# Altium footprint library Package_DIP.PcbLib: 281 footprints (part 15 of 18)
Each footprint in its own frame and in the unit in brackets; x right, y up, seen from the top. Pads: shape width x height; smd on the part's side, far side on the other; paste and mask are expansions set on the pad; w line width, h text height; cw(c..) or ccw(c..) is an arc to the next point about the centre after c.
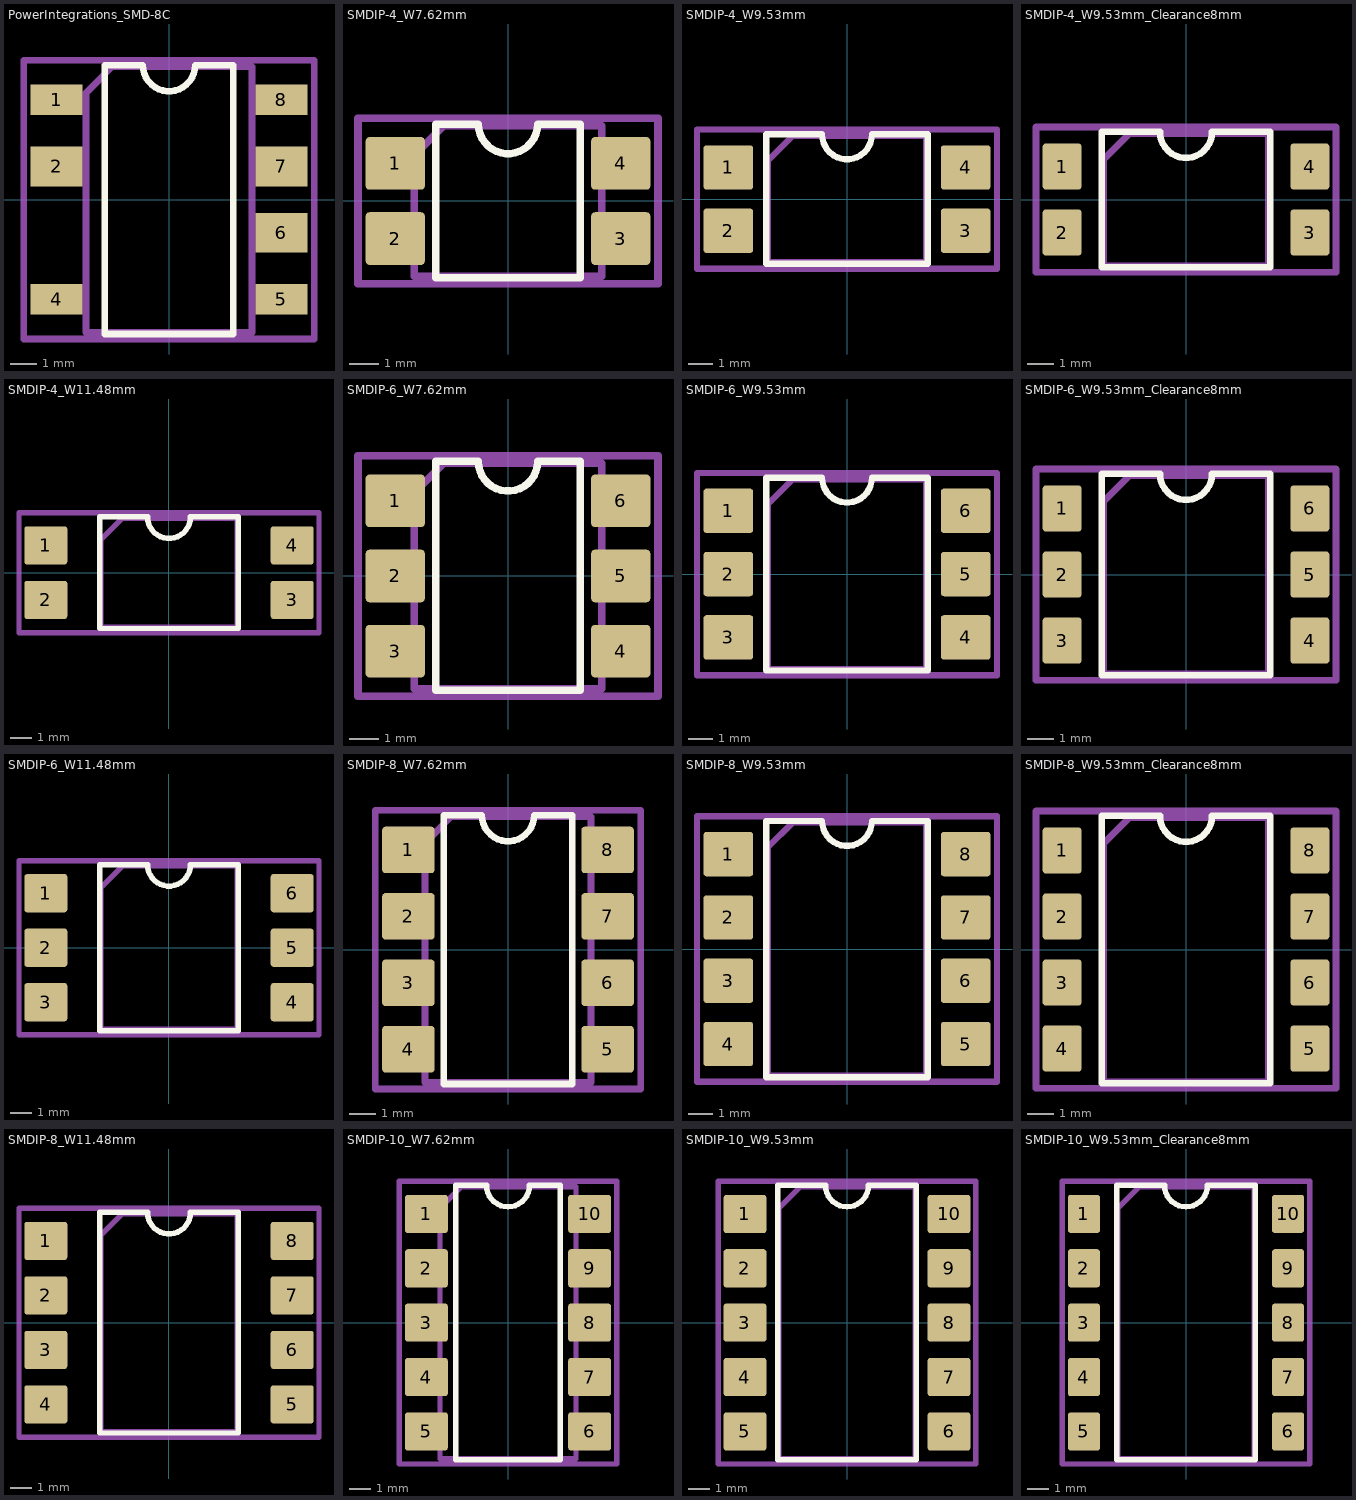
[diagram p14: the footprints below, top view; thin cyan lines are the x and y axes]

## PowerIntegrations_SMD-8C [mm]
pads (7):
  rect 2x1.17 smd: 1(-4.3,3.81) 4(-4.3,-3.81) 5(4.3,-3.81) 8(4.3,3.81)
  rect 2x1.52 smd: 2(-4.3,1.27) 6(4.3,-1.27) 7(4.3,1.27)
F.SilkS:
  lines w0.254: -2.45,-5.14 2.45,-5.14 2.45,5.14 1,5.14 cw(c0,5.14) -1,5.14 -2.45,5.14 -2.45,-5.14
Top Assembly:
  lines w0.254: -3.175,-5.08 3.175,-5.08 3.175,5.08 -2.175,5.08 -3.175,4.08 -3.175,-5.08
  text "'.Designator'" at -4.047,-0.84 h1
Top Courtyard:
  lines w0.254: -5.55,-5.33 5.55,-5.33 5.55,5.33 -5.55,5.33 -5.55,-5.33
Top Designator:
  text ".Designator" at -7.618,-0.508 h1.52

## SMDIP-4_W7.62mm [mm]
pads (4):
  rrect14% 2x1.78 smd: 1(-3.81,1.27) 2(-3.81,-1.27) 3(3.81,-1.27) 4(3.81,1.27)
F.SilkS:
  lines w0.254: -2.45,-2.6 2.45,-2.6 2.45,2.6 1,2.6 cw(c0,2.6) -1,2.6 -2.45,2.6 -2.45,-2.6
Top Assembly:
  lines w0.254: -3.175,-2.54 3.175,-2.54 3.175,2.54 -2.175,2.54 -3.175,1.54 -3.175,-2.54
  text "'.Designator'" at -4.047,-0.84 h1
Top Courtyard:
  lines w0.254: -5.07,-2.79 5.07,-2.79 5.07,2.79 -5.07,2.79 -5.07,-2.79
Top Designator:
  text ".Designator" at -7.618,-0.508 h1.52

## SMDIP-4_W9.53mm [mm]
pads (4):
  rrect14% 2x1.78 smd: 1(-4.765,1.27) 2(-4.765,-1.27) 3(4.765,-1.27) 4(4.765,1.27)
F.SilkS:
  lines w0.254: -3.235,-2.6 3.235,-2.6 3.235,2.6 1,2.6 cw(c0,2.6) -1,2.6 -3.235,2.6 -3.235,-2.6
Top Assembly:
  lines w0.254: -3.175,-2.54 3.175,-2.54 3.175,2.54 -2.175,2.54 -3.175,1.54 -3.175,-2.54
  text "'.Designator'" at -4.047,-0.84 h1
Top Courtyard:
  lines w0.254: -6.02,-2.79 6.02,-2.79 6.02,2.79 -6.02,2.79 -6.02,-2.79
Top Designator:
  text ".Designator" at -7.618,-0.508 h1.52

## SMDIP-4_W9.53mm_Clearance8mm [mm]
pads (4):
  rrect17% 1.5x1.78 smd: 1(-4.765,1.27) 2(-4.765,-1.27) 3(4.765,-1.27) 4(4.765,1.27)
F.SilkS:
  lines w0.254: -3.235,-2.6 3.235,-2.6 3.235,2.6 1,2.6 cw(c0,2.6) -1,2.6 -3.235,2.6 -3.235,-2.6
Top Assembly:
  lines w0.254: -3.175,-2.54 3.175,-2.54 3.175,2.54 -2.175,2.54 -3.175,1.54 -3.175,-2.54
  text "'.Designator'" at -4.047,-0.84 h1
Top Courtyard:
  lines w0.254: -5.77,-2.79 5.77,-2.79 5.77,2.79 -5.77,2.79 -5.77,-2.79
Top Designator:
  text ".Designator" at -7.618,-0.508 h1.52

## SMDIP-4_W11.48mm [mm]
pads (4):
  rrect14% 2x1.78 smd: 1(-5.74,1.27) 2(-5.74,-1.27) 3(5.74,-1.27) 4(5.74,1.27)
F.SilkS:
  lines w0.254: -3.235,-2.6 3.235,-2.6 3.235,2.6 1,2.6 cw(c0,2.6) -1,2.6 -3.235,2.6 -3.235,-2.6
Top Assembly:
  lines w0.254: -3.175,-2.54 3.175,-2.54 3.175,2.54 -2.175,2.54 -3.175,1.54 -3.175,-2.54
  text "'.Designator'" at -4.047,-0.84 h1
Top Courtyard:
  lines w0.254: -6.99,-2.79 6.99,-2.79 6.99,2.79 -6.99,2.79 -6.99,-2.79
Top Designator:
  text ".Designator" at -7.618,-0.508 h1.52

## SMDIP-6_W7.62mm [mm]
pads (6):
  rrect14% 2x1.78 smd: 1(-3.81,2.54) 2(-3.81,0) 3(-3.81,-2.54) 4(3.81,-2.54) 5(3.81,0) 6(3.81,2.54)
F.SilkS:
  lines w0.254: -2.45,-3.87 2.45,-3.87 2.45,3.87 1,3.87 cw(c0,3.87) -1,3.87 -2.45,3.87 -2.45,-3.87
Top Assembly:
  lines w0.254: -3.175,-3.81 3.175,-3.81 3.175,3.81 -2.175,3.81 -3.175,2.81 -3.175,-3.81
  text "'.Designator'" at 0.84,-4.047 h1
Top Courtyard:
  lines w0.254: -5.07,-4.06 5.07,-4.06 5.07,4.06 -5.07,4.06 -5.07,-4.06
Top Designator:
  text ".Designator" at -7.618,-0.513 h1.52

## SMDIP-6_W9.53mm [mm]
pads (6):
  rrect14% 2x1.78 smd: 1(-4.765,2.54) 2(-4.765,0) 3(-4.765,-2.54) 4(4.765,-2.54) 5(4.765,0) 6(4.765,2.54)
F.SilkS:
  lines w0.254: -3.235,-3.87 3.235,-3.87 3.235,3.87 1,3.87 cw(c0,3.87) -1,3.87 -3.235,3.87 -3.235,-3.87
Top Assembly:
  lines w0.254: -3.175,-3.81 3.175,-3.81 3.175,3.81 -2.175,3.81 -3.175,2.81 -3.175,-3.81
  text "'.Designator'" at 0.84,-4.047 h1
Top Courtyard:
  lines w0.254: -6.02,-4.06 6.02,-4.06 6.02,4.06 -6.02,4.06 -6.02,-4.06
Top Designator:
  text ".Designator" at -7.618,-0.513 h1.52

## SMDIP-6_W9.53mm_Clearance8mm [mm]
pads (6):
  rrect17% 1.5x1.78 smd: 1(-4.765,2.54) 2(-4.765,0) 3(-4.765,-2.54) 4(4.765,-2.54) 5(4.765,0) 6(4.765,2.54)
F.SilkS:
  lines w0.254: -3.235,-3.87 3.235,-3.87 3.235,3.87 1,3.87 cw(c0,3.87) -1,3.87 -3.235,3.87 -3.235,-3.87
Top Assembly:
  lines w0.254: -3.175,-3.81 3.175,-3.81 3.175,3.81 -2.175,3.81 -3.175,2.81 -3.175,-3.81
  text "'.Designator'" at 0.84,-4.047 h1
Top Courtyard:
  lines w0.254: -5.77,-4.06 5.77,-4.06 5.77,4.06 -5.77,4.06 -5.77,-4.06
Top Designator:
  text ".Designator" at -7.618,-0.513 h1.52

## SMDIP-6_W11.48mm [mm]
pads (6):
  rrect14% 2x1.78 smd: 1(-5.74,2.54) 2(-5.74,0) 3(-5.74,-2.54) 4(5.74,-2.54) 5(5.74,0) 6(5.74,2.54)
F.SilkS:
  lines w0.254: -3.235,-3.87 3.235,-3.87 3.235,3.87 1,3.87 cw(c0,3.87) -1,3.87 -3.235,3.87 -3.235,-3.87
Top Assembly:
  lines w0.254: -3.175,-3.81 3.175,-3.81 3.175,3.81 -2.175,3.81 -3.175,2.81 -3.175,-3.81
  text "'.Designator'" at 0.84,-4.047 h1
Top Courtyard:
  lines w0.254: -6.99,-4.06 6.99,-4.06 6.99,4.06 -6.99,4.06 -6.99,-4.06
Top Designator:
  text ".Designator" at -7.618,-0.513 h1.52

## SMDIP-8_W7.62mm [mm]
pads (8):
  rrect14% 2x1.78 smd: 1(-3.81,3.81) 2(-3.81,1.27) 3(-3.81,-1.27) 4(-3.81,-3.81) 5(3.81,-3.81) 6(3.81,-1.27) 7(3.81,1.27) 8(3.81,3.81)
F.SilkS:
  lines w0.254: -2.45,-5.14 2.45,-5.14 2.45,5.14 1,5.14 cw(c0,5.14) -1,5.14 -2.45,5.14 -2.45,-5.14
Top Assembly:
  lines w0.254: -3.175,-5.08 3.175,-5.08 3.175,5.08 -2.175,5.08 -3.175,4.08 -3.175,-5.08
  text "'.Designator'" at 0.84,-4.047 h1
Top Courtyard:
  lines w0.254: -5.07,-5.33 5.07,-5.33 5.07,5.33 -5.07,5.33 -5.07,-5.33
Top Designator:
  text ".Designator" at -7.618,-0.508 h1.52

## SMDIP-8_W9.53mm [mm]
pads (8):
  rrect14% 2x1.78 smd: 1(-4.765,3.81) 2(-4.765,1.27) 3(-4.765,-1.27) 4(-4.765,-3.81) 5(4.765,-3.81) 6(4.765,-1.27) 7(4.765,1.27) 8(4.765,3.81)
F.SilkS:
  lines w0.254: -3.235,-5.14 3.235,-5.14 3.235,5.14 1,5.14 cw(c0,5.14) -1,5.14 -3.235,5.14 -3.235,-5.14
Top Assembly:
  lines w0.254: -3.175,-5.08 3.175,-5.08 3.175,5.08 -2.175,5.08 -3.175,4.08 -3.175,-5.08
  text "'.Designator'" at 0.84,-4.047 h1
Top Courtyard:
  lines w0.254: -6.02,-5.33 6.02,-5.33 6.02,5.33 -6.02,5.33 -6.02,-5.33
Top Designator:
  text ".Designator" at -7.618,-0.508 h1.52

## SMDIP-8_W9.53mm_Clearance8mm [mm]
pads (8):
  rrect17% 1.5x1.78 smd: 1(-4.765,3.81) 2(-4.765,1.27) 3(-4.765,-1.27) 4(-4.765,-3.81) 5(4.765,-3.81) 6(4.765,-1.27) 7(4.765,1.27) 8(4.765,3.81)
F.SilkS:
  lines w0.254: -3.235,-5.14 3.235,-5.14 3.235,5.14 1,5.14 cw(c0,5.14) -1,5.14 -3.235,5.14 -3.235,-5.14
Top Assembly:
  lines w0.254: -3.175,-5.08 3.175,-5.08 3.175,5.08 -2.175,5.08 -3.175,4.08 -3.175,-5.08
  text "'.Designator'" at 0.84,-4.047 h1
Top Courtyard:
  lines w0.254: -5.77,-5.33 5.77,-5.33 5.77,5.33 -5.77,5.33 -5.77,-5.33
Top Designator:
  text ".Designator" at -7.618,-0.508 h1.52

## SMDIP-8_W11.48mm [mm]
pads (8):
  rrect14% 2x1.78 smd: 1(-5.74,3.81) 2(-5.74,1.27) 3(-5.74,-1.27) 4(-5.74,-3.81) 5(5.74,-3.81) 6(5.74,-1.27) 7(5.74,1.27) 8(5.74,3.81)
F.SilkS:
  lines w0.254: -3.235,-5.14 3.235,-5.14 3.235,5.14 1,5.14 cw(c0,5.14) -1,5.14 -3.235,5.14 -3.235,-5.14
Top Assembly:
  lines w0.254: -3.175,-5.08 3.175,-5.08 3.175,5.08 -2.175,5.08 -3.175,4.08 -3.175,-5.08
  text "'.Designator'" at 0.84,-4.047 h1
Top Courtyard:
  lines w0.254: -6.99,-5.33 6.99,-5.33 6.99,5.33 -6.99,5.33 -6.99,-5.33
Top Designator:
  text ".Designator" at -7.618,-0.508 h1.52

## SMDIP-10_W7.62mm [mm]
pads (10):
  rrect14% 2x1.78 smd: 1(-3.81,5.08) 2(-3.81,2.54) 3(-3.81,0) 4(-3.81,-2.54) 5(-3.81,-5.08) 6(3.81,-5.08) 7(3.81,-2.54) 8(3.81,0) 9(3.81,2.54) 10(3.81,5.08)
F.SilkS:
  lines w0.254: -2.45,-6.41 2.45,-6.41 2.45,6.41 1,6.41 cw(c0,6.41) -1,6.41 -2.45,6.41 -2.45,-6.41
Top Assembly:
  lines w0.254: -3.175,-6.35 3.175,-6.35 3.175,6.35 -2.175,6.35 -3.175,5.35 -3.175,-6.35
  text "'.Designator'" at 0.84,-4.047 h1
Top Courtyard:
  lines w0.254: -5.07,-6.6 5.07,-6.6 5.07,6.6 -5.07,6.6 -5.07,-6.6
Top Designator:
  text ".Designator" at -7.618,-0.508 h1.52

## SMDIP-10_W9.53mm [mm]
pads (10):
  rrect14% 2x1.78 smd: 1(-4.765,5.08) 2(-4.765,2.54) 3(-4.765,0) 4(-4.765,-2.54) 5(-4.765,-5.08) 6(4.765,-5.08) 7(4.765,-2.54) 8(4.765,0) 9(4.765,2.54) 10(4.765,5.08)
F.SilkS:
  lines w0.254: -3.235,-6.41 3.235,-6.41 3.235,6.41 1,6.41 cw(c0,6.41) -1,6.41 -3.235,6.41 -3.235,-6.41
Top Assembly:
  lines w0.254: -3.175,-6.35 3.175,-6.35 3.175,6.35 -2.175,6.35 -3.175,5.35 -3.175,-6.35
  text "'.Designator'" at 0.84,-4.047 h1
Top Courtyard:
  lines w0.254: -6.02,-6.6 6.02,-6.6 6.02,6.6 -6.02,6.6 -6.02,-6.6
Top Designator:
  text ".Designator" at -7.618,-0.508 h1.52

## SMDIP-10_W9.53mm_Clearance8mm [mm]
pads (10):
  rrect17% 1.5x1.78 smd: 1(-4.765,5.08) 2(-4.765,2.54) 3(-4.765,0) 4(-4.765,-2.54) 5(-4.765,-5.08) 6(4.765,-5.08) 7(4.765,-2.54) 8(4.765,0) 9(4.765,2.54) 10(4.765,5.08)
F.SilkS:
  lines w0.254: -3.235,-6.41 3.235,-6.41 3.235,6.41 1,6.41 cw(c0,6.41) -1,6.41 -3.235,6.41 -3.235,-6.41
Top Assembly:
  lines w0.254: -3.175,-6.35 3.175,-6.35 3.175,6.35 -2.175,6.35 -3.175,5.35 -3.175,-6.35
  text "'.Designator'" at 0.84,-4.047 h1
Top Courtyard:
  lines w0.254: -5.77,-6.6 5.77,-6.6 5.77,6.6 -5.77,6.6 -5.77,-6.6
Top Designator:
  text ".Designator" at -7.618,-0.508 h1.52